# Altium footprint library adafruit.PCBLIB: 643 footprints (part 4 of 41)
Each footprint in its own frame and in the unit in brackets; x right, y up, seen from the top. Pads: shape width x height; smd on the part's side, far side on the other; paste and mask are expansions set on the pad; w line width, h text height; cw(c..) or ccw(c..) is an arc to the next point about the centre after c.
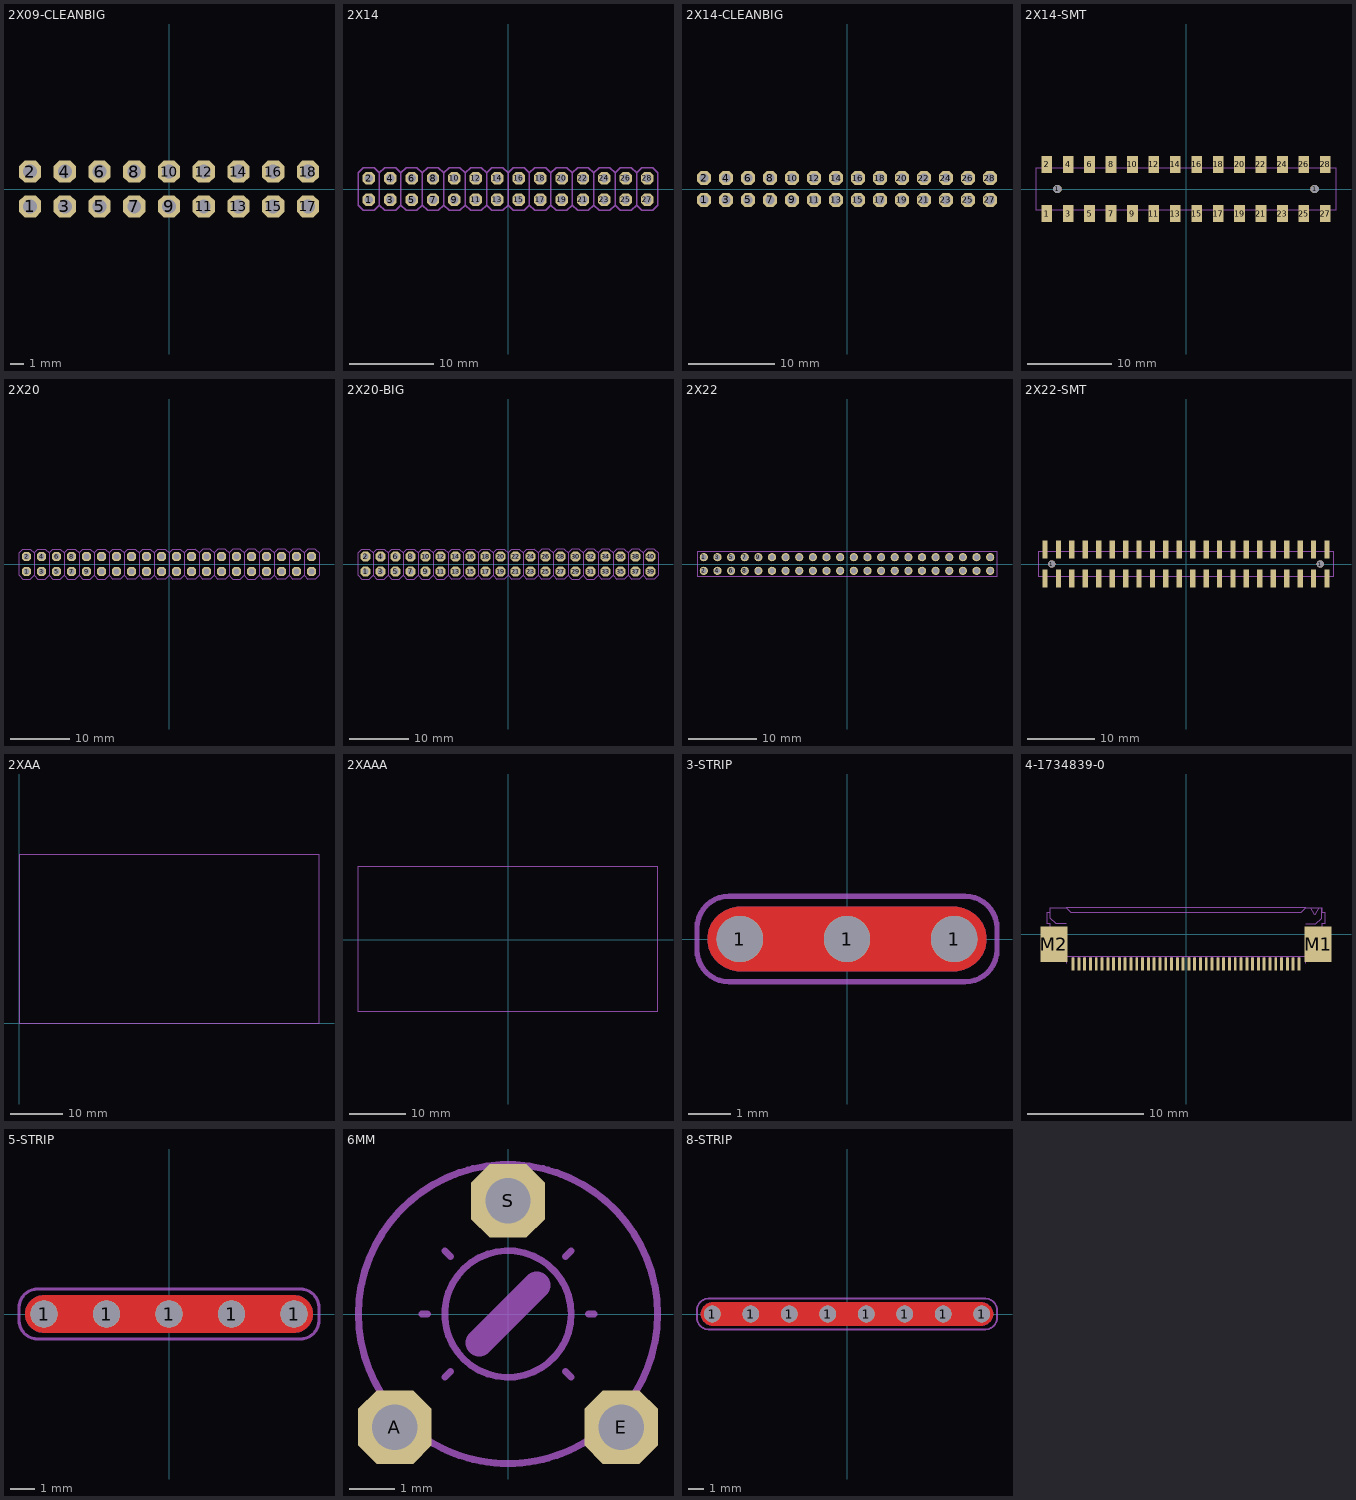
[diagram p3: the footprints below, top view; thin cyan lines are the x and y axes]

## 2X09-CLEANBIG [mil]
pads (18):
  oct 63.9x63.9 hole 40: 1(-400,-50) 2(-400,50) 3(-300,-50) 4(-300,50) 5(-200,-50) 6(-200,50) 7(-100,-50) 8(-100,50) 9(0,-50) 10(0,50) 11(100,-50) 12(100,50) 13(200,-50) 14(200,50) 15(300,-50) 16(300,50) 17(400,-50) 18(400,50)
Mechanical 18:
  rectangle: -410,-60 -390,-40
  rectangle: -410,40 -390,60
  rectangle: -310,40 -290,60
  rectangle: -310,-60 -290,-40
  rectangle: -210,40 -190,60
  rectangle: -210,-60 -190,-40
  rectangle: -110,40 -90,60
  rectangle: -10,40 10,60
  rectangle: 90,40 110,60
  rectangle: -110,-60 -90,-40
  rectangle: -10,-60 10,-40
  rectangle: 90,-60 110,-40
  rectangle: 190,40 210,60
  rectangle: 190,-60 210,-40
  rectangle: 290,40 310,60
  rectangle: 290,-60 310,-40
  rectangle: 390,40 410,60
  rectangle: 390,-60 410,-40

## 2X14 [mil]
pads (28):
  oct 58.09x58.09 hole 40: 1(-650,-50) 2(-650,50) 3(-550,-50) 4(-550,50) 5(-450,-50) 6(-450,50) 7(-350,-50) 8(-350,50) 9(-250,-50) 10(-250,50) 11(-150,-50) 12(-150,50) 13(-50,-50) 14(-50,50) 15(50,-50) 16(50,50) 17(150,-50) 18(150,50) 19(250,-50) 20(250,50) 21(350,-50) 22(350,50) 23(450,-50) 24(450,50) 25(550,-50) 26(550,50) 27(650,-50) 28(650,50)
Mechanical 2:
  lines w6: -600,-75 -625,-100 -675,-100 -700,-75 -700,75 -675,100 -625,100 -600,75 ; -600,-75 -575,-100 -525,-100 -500,-75 ; -600,-75 -600,75 ; -600,75 -575,100 -525,100 -500,75 ; -500,-75 -475,-100 -425,-100 -400,-75 ; -500,-75 -500,75 ; -500,75 -475,100 -425,100 -400,75 ; -400,-75 -375,-100 -325,-100 -300,-75 ; -400,-75 -400,75 ; -400,75 -375,100 -325,100 -300,75 ; -300,-75 -275,-100 -225,-100 -200,-75 ; -300,-75 -300,75 ; -300,75 -275,100 -225,100 -200,75 ; -200,-75 -175,-100 -125,-100 -100,-75 ; -200,-75 -200,75 ; -200,75 -175,100 -125,100 -100,75 ; -100,-75 -75,-100 -25,-100 0,-75 ; -100,-75 -100,75 ; -100,75 -75,100 -25,100 0,75 ; 0,-75 25,-100 75,-100 100,-75 ; 0,-75 0,75 ; 0,75 25,100 75,100 100,75 ; 100,-75 125,-100 175,-100 200,-75 ; 100,-75 100,75 ; 100,75 125,100 175,100 200,75 ; 200,-75 225,-100 275,-100 300,-75 ; 200,-75 200,75 ; 200,75 225,100 275,100 300,75 ; 300,-75 325,-100 375,-100 400,-75 ; 300,-75 300,75 ; 300,75 325,100 375,100 400,75 ; 400,-75 425,-100 475,-100 500,-75 ; 400,-75 400,75 ; 400,75 425,100 475,100 500,75 ; 500,-75 525,-100 575,-100 600,-75 ; 500,-75 500,75 ; 500,75 525,100 575,100 600,75 ; 600,-75 600,75 ; 600,-75 625,-100 675,-100 700,-75 700,75 675,100 625,100 600,75
Mechanical 18:
  rectangle: -660,-60 -640,-40
  rectangle: -660,40 -640,60
  rectangle: -560,40 -540,60
  rectangle: -560,-60 -540,-40
  rectangle: -460,40 -440,60
  rectangle: -460,-60 -440,-40
  rectangle: -360,40 -340,60
  rectangle: -260,40 -240,60
  rectangle: -160,40 -140,60
  rectangle: -360,-60 -340,-40
  rectangle: -260,-60 -240,-40
  rectangle: -160,-60 -140,-40
  rectangle: -60,40 -40,60
  rectangle: -60,-60 -40,-40
  rectangle: 40,40 60,60
  rectangle: 40,-60 60,-40
  rectangle: 140,40 160,60
  rectangle: 140,-60 160,-40
  rectangle: 240,40 260,60
  rectangle: 240,-60 260,-40
  rectangle: 340,40 360,60
  rectangle: 340,-60 360,-40
  rectangle: 440,40 460,60
  rectangle: 440,-60 460,-40
  rectangle: 540,40 560,60
  rectangle: 540,-60 560,-40
  rectangle: 640,40 660,60
  rectangle: 640,-60 660,-40

## 2X14-CLEANBIG [mil]
pads (28):
  oct 63.9x63.9 hole 40: 1(-650,-50) 2(-650,50) 3(-550,-50) 4(-550,50) 5(-450,-50) 6(-450,50) 7(-350,-50) 8(-350,50) 9(-250,-50) 10(-250,50) 11(-150,-50) 12(-150,50) 13(-50,-50) 14(-50,50) 15(50,-50) 16(50,50) 17(150,-50) 18(150,50) 19(250,-50) 20(250,50) 21(350,-50) 22(350,50) 23(450,-50) 24(450,50) 25(550,-50) 26(550,50) 27(650,-50) 28(650,50)
Mechanical 18:
  rectangle: -660,-60 -640,-40
  rectangle: -660,40 -640,60
  rectangle: -560,40 -540,60
  rectangle: -560,-60 -540,-40
  rectangle: -460,40 -440,60
  rectangle: -460,-60 -440,-40
  rectangle: -360,40 -340,60
  rectangle: -260,40 -240,60
  rectangle: -160,40 -140,60
  rectangle: -360,-60 -340,-40
  rectangle: -260,-60 -240,-40
  rectangle: -160,-60 -140,-40
  rectangle: -60,40 -40,60
  rectangle: -60,-60 -40,-40
  rectangle: 40,40 60,60
  rectangle: 40,-60 60,-40
  rectangle: 140,40 160,60
  rectangle: 140,-60 160,-40
  rectangle: 240,-60 260,-40
  rectangle: 240,40 260,60
  rectangle: 340,-60 360,-40
  rectangle: 340,40 360,60
  rectangle: 440,-60 460,-40
  rectangle: 440,40 460,60
  rectangle: 540,-60 560,-40
  rectangle: 540,40 560,60
  rectangle: 640,-60 660,-40
  rectangle: 640,40 660,60

## 2X14-SMT [mil]
pads (30):
  rect 50x80 smd: 1(-650,-115) 2(-650,115) 3(-550,-115) 4(-550,115) 5(-450,-115) 6(-450,115) 7(-350,-115) 8(-350,115) 9(-250,-115) 10(-250,115) 11(-150,-115) 12(-150,115) 13(-50,-115) 14(-50,115) 15(50,-115) 16(50,115) 17(150,-115) 18(150,115) 19(250,-115) 20(250,115) 21(350,-115) 22(350,115) 23(450,-115) 24(450,115) 25(550,-115) 26(550,115) 27(650,-115) 28(650,115)
  round 39.37 hole 39.37: 1(-600,0) 1(600,0)
Mechanical 2:
  lines w5: -700,-100 700,-100 700,100 -700,100 -700,-100

## 2X20 [mil]
pads (40):
  oct 58.09x58.09 hole 40: 1(-950,-50) 2(-950,50) 3(-850,-50) 4(-850,50) 5(-750,-50) 6(-750,50) 7(-650,-50) 8(-650,50) 9(-550,-50) 10(-550,50) 11(-450,-50) 12(-450,50) 13(-350,-50) 14(-350,50) 15(-250,-50) 16(-250,50) 17(-150,-50) 18(-150,50) 19(-50,-50) 20(-50,50) 21(50,-50) 22(50,50) 23(150,-50) 24(150,50) 25(250,-50) 26(250,50) 27(350,-50) 28(350,50) 29(450,-50) 30(450,50) 31(550,-50) 32(550,50) 33(650,-50) 34(650,50) 35(750,-50) 36(750,50) 37(850,-50) 38(850,50) 39(950,-50) 40(950,50)
Mechanical 2:
  lines w6: -900,-75 -925,-100 -975,-100 -1000,-75 -1000,75 -975,100 -925,100 -900,75 ; -900,-75 -875,-100 -825,-100 -800,-75 ; -900,-75 -900,75 ; -900,75 -875,100 -825,100 -800,75 ; -800,-75 -775,-100 -725,-100 -700,-75 ; -800,-75 -800,75 ; -800,75 -775,100 -725,100 -700,75 ; -700,-75 -675,-100 -625,-100 -600,-75 ; -700,-75 -700,75 ; -700,75 -675,100 -625,100 -600,75 ; -600,-75 -575,-100 -525,-100 -500,-75 ; -600,-75 -600,75 ; -600,75 -575,100 -525,100 -500,75 ; -500,-75 -475,-100 -425,-100 -400,-75 ; -500,-75 -500,75 ; -500,75 -475,100 -425,100 -400,75 ; -400,-75 -375,-100 -325,-100 -300,-75 ; -400,-75 -400,75 ; -400,75 -375,100 -325,100 -300,75 ; -300,-75 -275,-100 -225,-100 -200,-75 ; -300,-75 -300,75 ; -300,75 -275,100 -225,100 -200,75 ; -200,-75 -175,-100 -125,-100 -100,-75 ; -200,-75 -200,75 ; -200,75 -175,100 -125,100 -100,75 ; -100,-75 -75,-100 -25,-100 0,-75 ; -100,-75 -100,75 ; -100,75 -75,100 -25,100 0,75 ; 0,-75 25,-100 75,-100 100,-75 ; 0,-75 0,75 ; 0,75 25,100 75,100 100,75 ; 100,-75 125,-100 175,-100 200,-75 ; 100,-75 100,75 ; 100,75 125,100 175,100 200,75 ; 200,-75 225,-100 275,-100 300,-75 ; 200,-75 200,75 ; 200,75 225,100 275,100 300,75 ; 300,-75 325,-100 375,-100 400,-75 ; 300,-75 300,75 ; 300,75 325,100 375,100 400,75 ; 400,-75 425,-100 475,-100 500,-75 ; 400,-75 400,75 ; 400,75 425,100 475,100 500,75 ; 500,-75 525,-100 575,-100 600,-75 ; 500,-75 500,75 ; 500,75 525,100 575,100 600,75 ; 600,-75 625,-100 675,-100 700,-75 ; 600,-75 600,75 ; 600,75 625,100 675,100 700,75 ; 700,-75 725,-100 775,-100 800,-75 ; 700,-75 700,75 ; 700,75 725,100 775,100 800,75 ; 800,-75 825,-100 875,-100 900,-75 ; 800,-75 800,75 ; 800,75 825,100 875,100 900,75 ; 900,-75 900,75 ; 900,-75 925,-100 975,-100 1000,-75 1000,75 975,100 925,100 900,75
Mechanical 18:
  rectangle: -960,-60 -940,-40
  rectangle: -960,40 -940,60
  rectangle: -860,40 -840,60
  rectangle: -860,-60 -840,-40
  rectangle: -760,40 -740,60
  rectangle: -760,-60 -740,-40
  rectangle: -660,40 -640,60
  rectangle: -560,40 -540,60
  rectangle: -460,40 -440,60
  rectangle: -660,-60 -640,-40
  rectangle: -560,-60 -540,-40
  rectangle: -460,-60 -440,-40
  rectangle: -360,40 -340,60
  rectangle: -360,-60 -340,-40
  rectangle: -260,40 -240,60
  rectangle: -260,-60 -240,-40
  rectangle: -160,40 -140,60
  rectangle: -160,-60 -140,-40
  rectangle: -60,40 -40,60
  rectangle: -60,-60 -40,-40
  rectangle: 40,40 60,60
  rectangle: 40,-60 60,-40
  rectangle: 140,40 160,60
  rectangle: 140,-60 160,-40
  rectangle: 240,40 260,60
  rectangle: 240,-60 260,-40
  rectangle: 340,40 360,60
  rectangle: 340,-60 360,-40
  rectangle: 440,40 460,60
  rectangle: 440,-60 460,-40
  rectangle: 540,40 560,60
  rectangle: 540,-60 560,-40
  rectangle: 640,40 660,60
  rectangle: 640,-60 660,-40
  rectangle: 740,40 760,60
  rectangle: 740,-60 760,-40
  rectangle: 840,40 860,60
  rectangle: 840,-60 860,-40
  rectangle: 940,40 960,60
  rectangle: 940,-60 960,-40

## 2X20-BIG [mil]
pads (40):
  oct 67.78x67.78 hole 40: 1(-950,-50) 2(-950,50) 3(-850,-50) 4(-850,50) 5(-750,-50) 6(-750,50) 7(-650,-50) 8(-650,50) 9(-550,-50) 10(-550,50) 11(-450,-50) 12(-450,50) 13(-350,-50) 14(-350,50) 15(-250,-50) 16(-250,50) 17(-150,-50) 18(-150,50) 19(-50,-50) 20(-50,50) 21(50,-50) 22(50,50) 23(150,-50) 24(150,50) 25(250,-50) 26(250,50) 27(350,-50) 28(350,50) 29(450,-50) 30(450,50) 31(550,-50) 32(550,50) 33(650,-50) 34(650,50) 35(750,-50) 36(750,50) 37(850,-50) 38(850,50) 39(950,-50) 40(950,50)
Mechanical 2:
  lines w6: -900,-75 -925,-100 -975,-100 -1000,-75 -1000,75 -975,100 -925,100 -900,75 ; -900,-75 -875,-100 -825,-100 -800,-75 ; -900,-75 -900,75 ; -900,75 -875,100 -825,100 -800,75 ; -800,-75 -775,-100 -725,-100 -700,-75 ; -800,-75 -800,75 ; -800,75 -775,100 -725,100 -700,75 ; -700,-75 -675,-100 -625,-100 -600,-75 ; -700,-75 -700,75 ; -700,75 -675,100 -625,100 -600,75 ; -600,-75 -575,-100 -525,-100 -500,-75 ; -600,-75 -600,75 ; -600,75 -575,100 -525,100 -500,75 ; -500,-75 -475,-100 -425,-100 -400,-75 ; -500,-75 -500,75 ; -500,75 -475,100 -425,100 -400,75 ; -400,-75 -375,-100 -325,-100 -300,-75 ; -400,-75 -400,75 ; -400,75 -375,100 -325,100 -300,75 ; -300,-75 -275,-100 -225,-100 -200,-75 ; -300,-75 -300,75 ; -300,75 -275,100 -225,100 -200,75 ; -200,-75 -175,-100 -125,-100 -100,-75 ; -200,-75 -200,75 ; -200,75 -175,100 -125,100 -100,75 ; -100,-75 -75,-100 -25,-100 0,-75 ; -100,-75 -100,75 ; -100,75 -75,100 -25,100 0,75 ; 0,-75 25,-100 75,-100 100,-75 ; 0,-75 0,75 ; 0,75 25,100 75,100 100,75 ; 100,-75 125,-100 175,-100 200,-75 ; 100,-75 100,75 ; 100,75 125,100 175,100 200,75 ; 200,-75 225,-100 275,-100 300,-75 ; 200,-75 200,75 ; 200,75 225,100 275,100 300,75 ; 300,-75 325,-100 375,-100 400,-75 ; 300,-75 300,75 ; 300,75 325,100 375,100 400,75 ; 400,-75 425,-100 475,-100 500,-75 ; 400,-75 400,75 ; 400,75 425,100 475,100 500,75 ; 500,-75 525,-100 575,-100 600,-75 ; 500,-75 500,75 ; 500,75 525,100 575,100 600,75 ; 600,-75 625,-100 675,-100 700,-75 ; 600,-75 600,75 ; 600,75 625,100 675,100 700,75 ; 700,-75 725,-100 775,-100 800,-75 ; 700,-75 700,75 ; 700,75 725,100 775,100 800,75 ; 800,-75 825,-100 875,-100 900,-75 ; 800,-75 800,75 ; 800,75 825,100 875,100 900,75 ; 900,-75 900,75 ; 900,-75 925,-100 975,-100 1000,-75 1000,75 975,100 925,100 900,75
Mechanical 18:
  rectangle: -960,-60 -940,-40
  rectangle: -960,40 -940,60
  rectangle: -860,40 -840,60
  rectangle: -860,-60 -840,-40
  rectangle: -760,40 -740,60
  rectangle: -760,-60 -740,-40
  rectangle: -660,40 -640,60
  rectangle: -560,40 -540,60
  rectangle: -460,40 -440,60
  rectangle: -660,-60 -640,-40
  rectangle: -560,-60 -540,-40
  rectangle: -460,-60 -440,-40
  rectangle: -360,40 -340,60
  rectangle: -360,-60 -340,-40
  rectangle: -260,40 -240,60
  rectangle: -260,-60 -240,-40
  rectangle: -160,40 -140,60
  rectangle: -160,-60 -140,-40
  rectangle: -60,40 -40,60
  rectangle: -60,-60 -40,-40
  rectangle: 40,40 60,60
  rectangle: 40,-60 60,-40
  rectangle: 140,40 160,60
  rectangle: 140,-60 160,-40
  rectangle: 240,40 260,60
  rectangle: 240,-60 260,-40
  rectangle: 340,40 360,60
  rectangle: 340,-60 360,-40
  rectangle: 440,40 460,60
  rectangle: 440,-60 460,-40
  rectangle: 540,40 560,60
  rectangle: 540,-60 560,-40
  rectangle: 640,40 660,60
  rectangle: 640,-60 660,-40
  rectangle: 740,40 760,60
  rectangle: 740,-60 760,-40
  rectangle: 840,40 860,60
  rectangle: 840,-60 860,-40
  rectangle: 940,40 960,60
  rectangle: 940,-60 960,-40

## 2X22 [mm]
pads (44):
  round 1.2 hole 0.8: 1(-21,1) 2(-21,-1) 3(-19,1) 4(-19,-1) 5(-17,1) 6(-17,-1) 7(-15,1) 8(-15,-1) 9(-13,1) 10(-13,-1) 11(-11,1) 12(-11,-1) 13(-9,1) 14(-9,-1) 15(-7,1) 16(-7,-1) 17(-5,1) 18(-5,-1) 19(-3,1) 20(-3,-1) 21(-1,1) 22(-1,-1) 23(1,1) 24(1,-1) 25(3,1) 26(3,-1) 27(5,1) 28(5,-1) 29(7,1) 30(7,-1) 31(9,1) 32(9,-1) 33(11,1) 34(11,-1) 35(13,1) 36(13,-1) 37(15,1) 38(15,-1) 39(17,1) 40(17,-1) 41(19,1) 42(19,-1) 43(21,1) 44(21,-1)
Mechanical 2:
  lines w0.127: -22,-1.81 22,-1.81 22,1.81 -22,1.81 -22,-1.81

## 2X22-SMT [mil]
pads (46):
  rect 31.5x106.3 smd: 1(-826.77,84.65) 2(-826.77,-84.65) 3(-748.03,84.65) 4(-748.03,-84.65) 5(-669.29,84.65) 6(-669.29,-84.65) 7(-590.55,84.65) 8(-590.55,-84.65) 9(-511.81,84.65) 10(-511.81,-84.65) 11(-433.07,84.65) 12(-433.07,-84.65) 13(-354.33,84.65) 14(-354.33,-84.65) 15(-275.59,84.65) 16(-275.59,-84.65) 17(-196.85,84.65) 18(-196.85,-84.65) 19(-118.11,84.65) 20(-118.11,-84.65) 21(-39.37,84.65) 22(-39.37,-84.65) 23(39.37,84.65) 24(39.37,-84.65) 25(118.11,84.65) 26(118.11,-84.65) 27(196.85,84.65) 28(196.85,-84.65) 29(275.59,84.65) 30(275.59,-84.65) 31(354.33,84.65) 32(354.33,-84.65) 33(433.07,84.65) 34(433.07,-84.65) 35(511.81,84.65) 36(511.81,-84.65) 37(590.55,84.65) 38(590.55,-84.65) 39(669.29,84.65) 40(669.29,-84.65) 41(748.03,84.65) 42(748.03,-84.65) 43(826.77,84.65) 44(826.77,-84.65)
  round 43.31 hole 43.31: 1(-787.4,0) 1(787.4,0)
Mechanical 2:
  lines w5: -866.14,-71.26 866.14,-71.26 866.14,71.26 -866.14,71.26 -866.14,-71.26

## 2XAA [mil]
Mechanical 2:
  lines w5: 0,0 0,1259.84 2248.03,1259.84 2248.03,0 0,0

## 2XAAA [mil]
Mechanical 2:
  lines w5: -1050,-500 -1050,509.84 1048.03,509.84 1048.03,-500 -1050,-500

## 2XAAA-SIDE [mil]

## 3-STRIP [mil]
pads (3):
  round 43.31 hole 43.31: 1(-100,0) 1(0,0) 1(100,0)
Top Layer:
  region: -130,0 -130,2.95 -128.85,8.75 -126.59,14.21 -123.3,19.12 -119.12,23.3 -114.21,26.59 -108.75,28.85 -102.95,30 -100,30 100,30 102.95,30 108.75,28.85 114.21,26.59 119.12,23.3 123.3,19.12 126.59,14.21 128.85,8.75 130,2.95 130,0 130,-2.95 128.85,-8.75 126.59,-14.21 123.3,-19.12 119.12,-23.3 114.21,-26.59 108.75,-28.85 102.95,-30 100,-30 -100,-30 -102.95,-30 -108.75,-28.85 -114.21,-26.59 -119.12,-23.3 -123.3,-19.12 -126.59,-14.21 -128.85,-8.75 -130,-2.95
Bottom Layer:
  region: 130,0 130,2.95 128.85,8.75 126.59,14.21 123.3,19.12 119.12,23.3 114.21,26.59 108.75,28.85 102.95,30 100,30 -100,30 -102.95,30 -108.75,28.85 -114.21,26.59 -119.12,23.3 -123.3,19.12 -126.59,14.21 -128.85,8.75 -130,2.95 -130,0 -130,-2.95 -128.85,-8.75 -126.59,-14.21 -123.3,-19.12 -119.12,-23.3 -114.21,-26.59 -108.75,-28.85 -102.95,-30 -100,-30 100,-30 102.95,-30 108.75,-28.85 114.21,-26.59 119.12,-23.3 123.3,-19.12 126.59,-14.21 128.85,-8.75 130,-2.95
Top Solder:
  region: -135,-5 -135,-7.95 -133.85,-13.75 -131.59,-19.21 -128.3,-24.12 -124.12,-28.3 -119.21,-31.59 -113.75,-33.85 -107.95,-35 -105,-35 105,-35 107.95,-35 113.75,-33.85 119.21,-31.59 124.12,-28.3 128.3,-24.12 131.59,-19.21 133.85,-13.75 135,-7.95 135,-5 135,5 135,7.95 133.85,13.75 131.59,19.21 128.3,24.12 124.12,28.3 119.21,31.59 113.75,33.85 107.95,35 105,35 -105,35 -107.95,35 -113.75,33.85 -119.21,31.59 -124.12,28.3 -128.3,24.12 -131.59,19.21 -133.85,13.75 -135,7.95 -135,5
Bottom Solder:
  region: 135,-5 135,-7.95 133.85,-13.75 131.59,-19.21 128.3,-24.12 124.12,-28.3 119.21,-31.59 113.75,-33.85 107.95,-35 105,-35 -105,-35 -107.95,-35 -113.75,-33.85 -119.21,-31.59 -124.12,-28.3 -128.3,-24.12 -131.59,-19.21 -133.85,-13.75 -135,-7.95 -135,-5 -135,5 -135,7.95 -133.85,13.75 -131.59,19.21 -128.3,24.12 -124.12,28.3 -119.21,31.59 -113.75,33.85 -107.95,35 -105,35 105,35 107.95,35 113.75,33.85 119.21,31.59 124.12,28.3 128.3,24.12 131.59,19.21 133.85,13.75 135,7.95 135,5
Mechanical 2:
  lines w5: -140,-10 ccw(c-110,-10) -110,-40 110,-40 ccw(c110,-10) 140,-10 140,10 ccw(c110,10) 110,40 -110,40 ccw(c-110,10) -140,10 -140,-10

## 4-1734839-0 [mil]
pads (42):
  rect 9.84x43.31 smd mask-21.66: 1(-383.86,-100) 2(-364.17,-100) 3(-344.49,-100) 4(-324.8,-100) 5(-305.12,-100) 6(-285.43,-100) 7(-265.75,-100) 8(-246.06,-100) 9(-226.38,-100) 10(-206.69,-100) 11(-187.01,-100) 12(-167.32,-100) 13(-147.64,-100) 14(-127.95,-100) 15(-108.27,-100) 16(-88.58,-100) 17(-68.9,-100) 18(-49.21,-100) 19(-29.53,-100) 20(-9.84,-100) 21(9.84,-100) 22(29.53,-100) 23(49.21,-100) 24(68.9,-100) 25(88.58,-100) 26(108.27,-100) 27(127.95,-100) 28(147.64,-100) 29(167.32,-100) 30(187.01,-100) 31(206.69,-100) 32(226.38,-100) 33(246.06,-100) 34(265.75,-100) 35(285.43,-100) 36(305.12,-100) 37(324.8,-100) 38(344.49,-100) 39(364.17,-100) 40(383.86,-100)
  rect 90.55x122.05 smd: M1(448.82,-33.07) M2(-448.82,-33.07)
Top Solder:
  region: 377.95,-77.36 377.95,-122.64 389.77,-122.64 389.77,-77.36
  region: 358.26,-77.37 358.26,-122.63 370.09,-122.63 370.09,-77.37
  region: 338.58,-77.36 338.58,-122.64 350.4,-122.64 350.4,-77.36
  region: 318.89,-77.37 318.89,-122.63 330.72,-122.63 330.72,-77.37
  region: 299.21,-77.36 299.21,-122.64 311.03,-122.64 311.03,-77.36
  region: 279.52,-77.37 279.52,-122.63 291.35,-122.63 291.35,-77.37
  region: 259.84,-77.36 259.84,-122.64 271.66,-122.64 271.66,-77.36
  region: 240.16,-77.37 240.16,-122.63 251.97,-122.63 251.97,-77.37
  region: 220.47,-77.36 220.47,-122.64 232.29,-122.64 232.29,-77.36
  region: 200.78,-77.36 200.78,-122.64 212.6,-122.64 212.6,-77.36
  region: 181.1,-77.36 181.1,-122.64 192.92,-122.64 192.92,-77.36
  region: 161.41,-77.36 161.41,-122.64 173.23,-122.64 173.23,-77.36
  region: 141.73,-77.36 141.73,-122.64 153.55,-122.64 153.55,-77.36
  region: 122.05,-77.36 122.05,-122.64 133.87,-122.64 133.87,-77.36
  region: 102.36,-77.36 102.36,-122.64 114.18,-122.64 114.18,-77.36
  region: 82.67,-77.36 82.67,-122.64 94.49,-122.64 94.49,-77.36
  region: 62.99,-77.36 62.99,-122.64 74.81,-122.64 74.81,-77.36
  region: 43.3,-77.36 43.3,-122.64 55.12,-122.64 55.12,-77.36
  region: 23.62,-77.36 23.62,-122.64 35.44,-122.64 35.44,-77.36
  region: 3.93,-77.36 3.93,-122.64 15.75,-122.64 15.75,-77.36
  region: -15.75,-77.36 -15.75,-122.64 -3.93,-122.64 -3.93,-77.36
  region: -35.44,-77.36 -35.44,-122.64 -23.62,-122.64 -23.62,-77.36
  region: -55.12,-77.36 -55.12,-122.64 -43.3,-122.64 -43.3,-77.36
  region: -74.81,-77.36 -74.81,-122.64 -62.99,-122.64 -62.99,-77.36
  region: -94.49,-77.36 -94.49,-122.64 -82.67,-122.64 -82.67,-77.36
  region: -114.18,-77.36 -114.18,-122.64 -102.36,-122.64 -102.36,-77.36
  region: -133.87,-77.36 -133.87,-122.64 -122.05,-122.64 -122.05,-77.36
  region: -153.55,-77.36 -153.55,-122.64 -141.73,-122.64 -141.73,-77.36
  region: -173.23,-77.36 -173.23,-122.64 -161.41,-122.64 -161.41,-77.36
  region: -192.92,-77.36 -192.92,-122.64 -181.1,-122.64 -181.1,-77.36
  region: -212.6,-77.36 -212.6,-122.64 -200.78,-122.64 -200.78,-77.36
  region: -232.29,-77.36 -232.29,-122.64 -220.47,-122.64 -220.47,-77.36
  region: -251.97,-77.37 -251.97,-122.63 -240.16,-122.63 -240.16,-77.37
  region: -271.66,-77.36 -271.66,-122.64 -259.84,-122.64 -259.84,-77.36
  region: -291.35,-77.37 -291.35,-122.63 -279.52,-122.63 -279.52,-77.37
  region: -311.03,-77.36 -311.03,-122.64 -299.21,-122.64 -299.21,-77.36
  region: -330.72,-77.37 -330.72,-122.63 -318.89,-122.63 -318.89,-77.37
  region: -350.4,-77.36 -350.4,-122.64 -338.58,-122.64 -338.58,-77.36
  region: -370.09,-77.37 -370.09,-122.63 -358.26,-122.63 -358.26,-77.37
  region: -389.77,-77.36 -389.77,-122.64 -377.95,-122.64 -377.95,-77.36
Mechanical 2:
  lines w4: -460.63,88.98 -460.63,55.51 -440.94,35.83 -407.48,35.83 ; -460.63,90.94 -407.48,90.94 ; 407.48,35.83 440.94,35.83 460.63,55.51 460.63,88.98 ; 460.63,90.94 407.48,90.94 ; -407.48,90.94 -391.73,75.2 391.73,75.2 407.48,90.94 ; -407.48,90.94 407.48,90.94
Mechanical 18:
  region: 380.9,-77.36 380.9,-111.81 386.81,-111.81 386.81,-77.36
  region: 361.22,-77.36 361.22,-111.81 367.13,-111.81 367.13,-77.36
  region: 341.53,-77.36 341.53,-111.81 347.44,-111.81 347.44,-77.36
  region: 321.85,-77.36 321.85,-111.81 327.76,-111.81 327.76,-77.36
  region: 302.16,-77.36 302.16,-111.81 308.07,-111.81 308.07,-77.36
  region: 282.48,-77.36 282.48,-111.81 288.39,-111.81 288.39,-77.36
  region: 262.79,-77.36 262.79,-111.81 268.7,-111.81 268.7,-77.36
  region: 243.11,-77.36 243.11,-111.81 249.02,-111.81 249.02,-77.36
  region: 223.42,-77.36 223.42,-111.81 229.33,-111.81 229.33,-77.36
  region: 203.74,-77.36 203.74,-111.81 209.65,-111.81 209.65,-77.36
  region: 184.05,-77.36 184.05,-111.81 189.96,-111.81 189.96,-77.36
  region: 164.37,-77.36 164.37,-111.81 170.28,-111.81 170.28,-77.36
  region: 144.68,-77.36 144.68,-111.81 150.59,-111.81 150.59,-77.36
  region: 125,-77.36 125,-111.81 130.91,-111.81 130.91,-77.36
  region: 105.31,-77.36 105.31,-111.81 111.22,-111.81 111.22,-77.36
  region: 85.63,-77.36 85.63,-111.81 91.54,-111.81 91.54,-77.36
  region: 65.94,-77.36 65.94,-111.81 71.85,-111.81 71.85,-77.36
  region: 46.26,-77.36 46.26,-111.81 52.17,-111.81 52.17,-77.36
  region: 26.57,-77.36 26.57,-111.81 32.48,-111.81 32.48,-77.36
  region: 6.89,-77.36 6.89,-111.81 12.8,-111.81 12.8,-77.36
  region: -12.8,-77.36 -12.8,-111.81 -6.89,-111.81 -6.89,-77.36
  region: -32.48,-77.36 -32.48,-111.81 -26.57,-111.81 -26.57,-77.36
  region: -52.17,-77.36 -52.17,-111.81 -46.26,-111.81 -46.26,-77.36
  region: -71.85,-77.36 -71.85,-111.81 -65.94,-111.81 -65.94,-77.36
  region: -91.54,-77.36 -91.54,-111.81 -85.63,-111.81 -85.63,-77.36
  region: -111.22,-77.36 -111.22,-111.81 -105.31,-111.81 -105.31,-77.36
  region: -130.91,-77.36 -130.91,-111.81 -125,-111.81 -125,-77.36
  region: -150.59,-77.36 -150.59,-111.81 -144.68,-111.81 -144.68,-77.36
  region: -170.28,-77.36 -170.28,-111.81 -164.37,-111.81 -164.37,-77.36
  region: -189.96,-77.36 -189.96,-111.81 -184.05,-111.81 -184.05,-77.36
  region: -209.65,-77.36 -209.65,-111.81 -203.74,-111.81 -203.74,-77.36
  region: -229.33,-77.36 -229.33,-111.81 -223.42,-111.81 -223.42,-77.36
  region: -249.02,-77.36 -249.02,-111.81 -243.11,-111.81 -243.11,-77.36
  region: -268.7,-77.36 -268.7,-111.81 -262.79,-111.81 -262.79,-77.36
  region: -288.39,-77.36 -288.39,-111.81 -282.48,-111.81 -282.48,-77.36
  region: -308.07,-77.36 -308.07,-111.81 -302.16,-111.81 -302.16,-77.36
  region: -327.76,-77.36 -327.76,-111.81 -321.85,-111.81 -321.85,-77.36
  region: -347.44,-77.36 -347.44,-111.81 -341.53,-111.81 -341.53,-77.36
  region: -367.13,-77.36 -367.13,-111.81 -361.22,-111.81 -361.22,-77.36
  region: -386.81,-77.36 -386.81,-111.81 -380.9,-111.81 -380.9,-77.36
  lines w4: -460.63,18.11 -460.63,35.83 -472.44,35.83 -472.44,75.2 -460.63,75.2 -460.63,90.94 ; -407.48,-98.03 -407.48,-75.39 407.48,-75.39 407.48,-98.03 ; 423.23,90.94 437.01,67.32 450.79,90.94 ; 460.63,18.11 460.63,35.83 472.44,35.83 472.44,75.2 460.63,75.2 460.63,90.94

## 5-STRIP [mil]
pads (5):
  round 43.31 hole 43.31: 1(-200,0) 1(-100,0) 1(0,0) 1(100,0) 1(200,0)
Top Layer:
  region: -230,0 -230,2.95 -228.85,8.75 -226.59,14.21 -223.3,19.12 -219.12,23.3 -214.21,26.59 -208.75,28.85 -202.95,30 -200,30 200,30 202.95,30 208.75,28.85 214.21,26.59 219.12,23.3 223.3,19.12 226.59,14.21 228.85,8.75 230,2.95 230,0 230,-2.95 228.85,-8.75 226.59,-14.21 223.3,-19.12 219.12,-23.3 214.21,-26.59 208.75,-28.85 202.95,-30 200,-30 -200,-30 -202.95,-30 -208.75,-28.85 -214.21,-26.59 -219.12,-23.3 -223.3,-19.12 -226.59,-14.21 -228.85,-8.75 -230,-2.95
Bottom Layer:
  region: 230,0 230,2.95 228.85,8.75 226.59,14.21 223.3,19.12 219.12,23.3 214.21,26.59 208.75,28.85 202.95,30 200,30 -200,30 -202.95,30 -208.75,28.85 -214.21,26.59 -219.12,23.3 -223.3,19.12 -226.59,14.21 -228.85,8.75 -230,2.95 -230,0 -230,-2.95 -228.85,-8.75 -226.59,-14.21 -223.3,-19.12 -219.12,-23.3 -214.21,-26.59 -208.75,-28.85 -202.95,-30 -200,-30 200,-30 202.95,-30 208.75,-28.85 214.21,-26.59 219.12,-23.3 223.3,-19.12 226.59,-14.21 228.85,-8.75 230,-2.95
Top Solder:
  region: -235,-5 -235,-7.95 -233.85,-13.75 -231.59,-19.21 -228.3,-24.12 -224.12,-28.3 -219.21,-31.59 -213.75,-33.85 -207.95,-35 -205,-35 205,-35 207.95,-35 213.75,-33.85 219.21,-31.59 224.12,-28.3 228.3,-24.12 231.59,-19.21 233.85,-13.75 235,-7.95 235,-5 235,5 235,7.95 233.85,13.75 231.59,19.21 228.3,24.12 224.12,28.3 219.21,31.59 213.75,33.85 207.95,35 205,35 -205,35 -207.95,35 -213.75,33.85 -219.21,31.59 -224.12,28.3 -228.3,24.12 -231.59,19.21 -233.85,13.75 -235,7.95 -235,5
Bottom Solder:
  region: 235,-5 235,-7.95 233.85,-13.75 231.59,-19.21 228.3,-24.12 224.12,-28.3 219.21,-31.59 213.75,-33.85 207.95,-35 205,-35 -205,-35 -207.95,-35 -213.75,-33.85 -219.21,-31.59 -224.12,-28.3 -228.3,-24.12 -231.59,-19.21 -233.85,-13.75 -235,-7.95 -235,-5 -235,5 -235,7.95 -233.85,13.75 -231.59,19.21 -228.3,24.12 -224.12,28.3 -219.21,31.59 -213.75,33.85 -207.95,35 -205,35 205,35 207.95,35 213.75,33.85 219.21,31.59 224.12,28.3 228.3,24.12 231.59,19.21 233.85,13.75 235,7.95 235,5
Mechanical 2:
  lines w5: -240,-10 ccw(c-210,-10) -210,-40 210,-40 ccw(c210,-10) 240,-10 240,10 ccw(c210,10) 210,40 -210,40 ccw(c-210,10) -240,10 -240,-10

## 6MM [mm]
pads (3):
  oct 1.623x1.623 hole 1: A(-2.5,-2.5) E(2.5,-2.5) S(0,2.5)
Mechanical 2:
  circle w0.152: c0,0 r1.397
  lines w0.152: -3.238,-0.648 ccw(c0,0) 0,-3.302 ccw(c0,0) 3.243,-0.624 ; -3.228,0.673 cw(c0,0) -0.889,3.175 ; -1.397,-1.397 -1.27,-1.27 ; -1.397,1.397 -1.27,1.27 ; 0.889,3.175 cw(c0,0) 3.228,0.673 ; 1.27,-1.27 1.397,-1.397 ; 1.27,1.27 1.397,1.397
  lines w0.61: -0.635,-0.635 0.635,0.635
Mechanical 18:
  circle w0.152: c0,0 r3.302
  lines w0.152: -1.905,0 -1.778,0 ; 0,1.778 0,1.905 ; 1.778,0 1.905,0

## 8-STRIP [mil]
pads (8):
  round 43.31 hole 43.31: 1(-350,0) 1(-250,0) 1(-150,0) 1(-50,0) 1(50,0) 1(150,0) 1(250,0) 1(350,0)
Top Layer:
  region: -380,0 -380,2.95 -378.85,8.75 -376.59,14.21 -373.3,19.12 -369.12,23.3 -364.21,26.59 -358.75,28.85 -352.95,30 -350,30 350,30 352.95,30 358.75,28.85 364.21,26.59 369.12,23.3 373.3,19.12 376.59,14.21 378.85,8.75 380,2.95 380,0 380,-2.95 378.85,-8.75 376.59,-14.21 373.3,-19.12 369.12,-23.3 364.21,-26.59 358.75,-28.85 352.95,-30 350,-30 -350,-30 -352.95,-30 -358.75,-28.85 -364.21,-26.59 -369.12,-23.3 -373.3,-19.12 -376.59,-14.21 -378.85,-8.75 -380,-2.95
Bottom Layer:
  region: 380,0 380,2.95 378.85,8.75 376.59,14.21 373.3,19.12 369.12,23.3 364.21,26.59 358.75,28.85 352.95,30 350,30 -350,30 -352.95,30 -358.75,28.85 -364.21,26.59 -369.12,23.3 -373.3,19.12 -376.59,14.21 -378.85,8.75 -380,2.95 -380,0 -380,-2.95 -378.85,-8.75 -376.59,-14.21 -373.3,-19.12 -369.12,-23.3 -364.21,-26.59 -358.75,-28.85 -352.95,-30 -350,-30 350,-30 352.95,-30 358.75,-28.85 364.21,-26.59 369.12,-23.3 373.3,-19.12 376.59,-14.21 378.85,-8.75 380,-2.95
Top Solder:
  region: -385,-5 -385,-7.95 -383.85,-13.75 -381.59,-19.21 -378.3,-24.12 -374.12,-28.3 -369.21,-31.59 -363.75,-33.85 -357.95,-35 -355,-35 355,-35 357.95,-35 363.75,-33.85 369.21,-31.59 374.12,-28.3 378.3,-24.12 381.59,-19.21 383.85,-13.75 385,-7.95 385,-5 385,5 385,7.95 383.85,13.75 381.59,19.21 378.3,24.12 374.12,28.3 369.21,31.59 363.75,33.85 357.95,35 355,35 -355,35 -357.95,35 -363.75,33.85 -369.21,31.59 -374.12,28.3 -378.3,24.12 -381.59,19.21 -383.85,13.75 -385,7.95 -385,5
Bottom Solder:
  region: 385,-5 385,-7.95 383.85,-13.75 381.59,-19.21 378.3,-24.12 374.12,-28.3 369.21,-31.59 363.75,-33.85 357.95,-35 355,-35 -355,-35 -357.95,-35 -363.75,-33.85 -369.21,-31.59 -374.12,-28.3 -378.3,-24.12 -381.59,-19.21 -383.85,-13.75 -385,-7.95 -385,-5 -385,5 -385,7.95 -383.85,13.75 -381.59,19.21 -378.3,24.12 -374.12,28.3 -369.21,31.59 -363.75,33.85 -357.95,35 -355,35 355,35 357.95,35 363.75,33.85 369.21,31.59 374.12,28.3 378.3,24.12 381.59,19.21 383.85,13.75 385,7.95 385,5
Mechanical 2:
  lines w5: -390,-10 ccw(c-360,-10) -360,-40 360,-40 ccw(c360,-10) 390,-10 390,10 ccw(c360,10) 360,40 -360,40 ccw(c-360,10) -390,10 -390,-10